# Altium schematic symbol library DRV8837.SchLib: 1 symbol
Pins are listed as number, name and electrical type; pins without a type are passive.

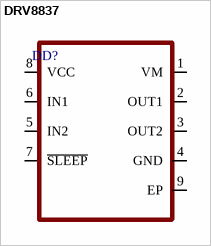
[diagram p0: symbol DRV8837]

## DRV8837
designator DD?
pins: 1 VM, 2 OUT1, 3 OUT2, 4 GND, 5 IN2, 6 IN1, 7 ~{SLEEP}, 8 VCC, 9 EP